# EAGLE library part AM3358_BZCZ_324 (library AM3358BZCZ)
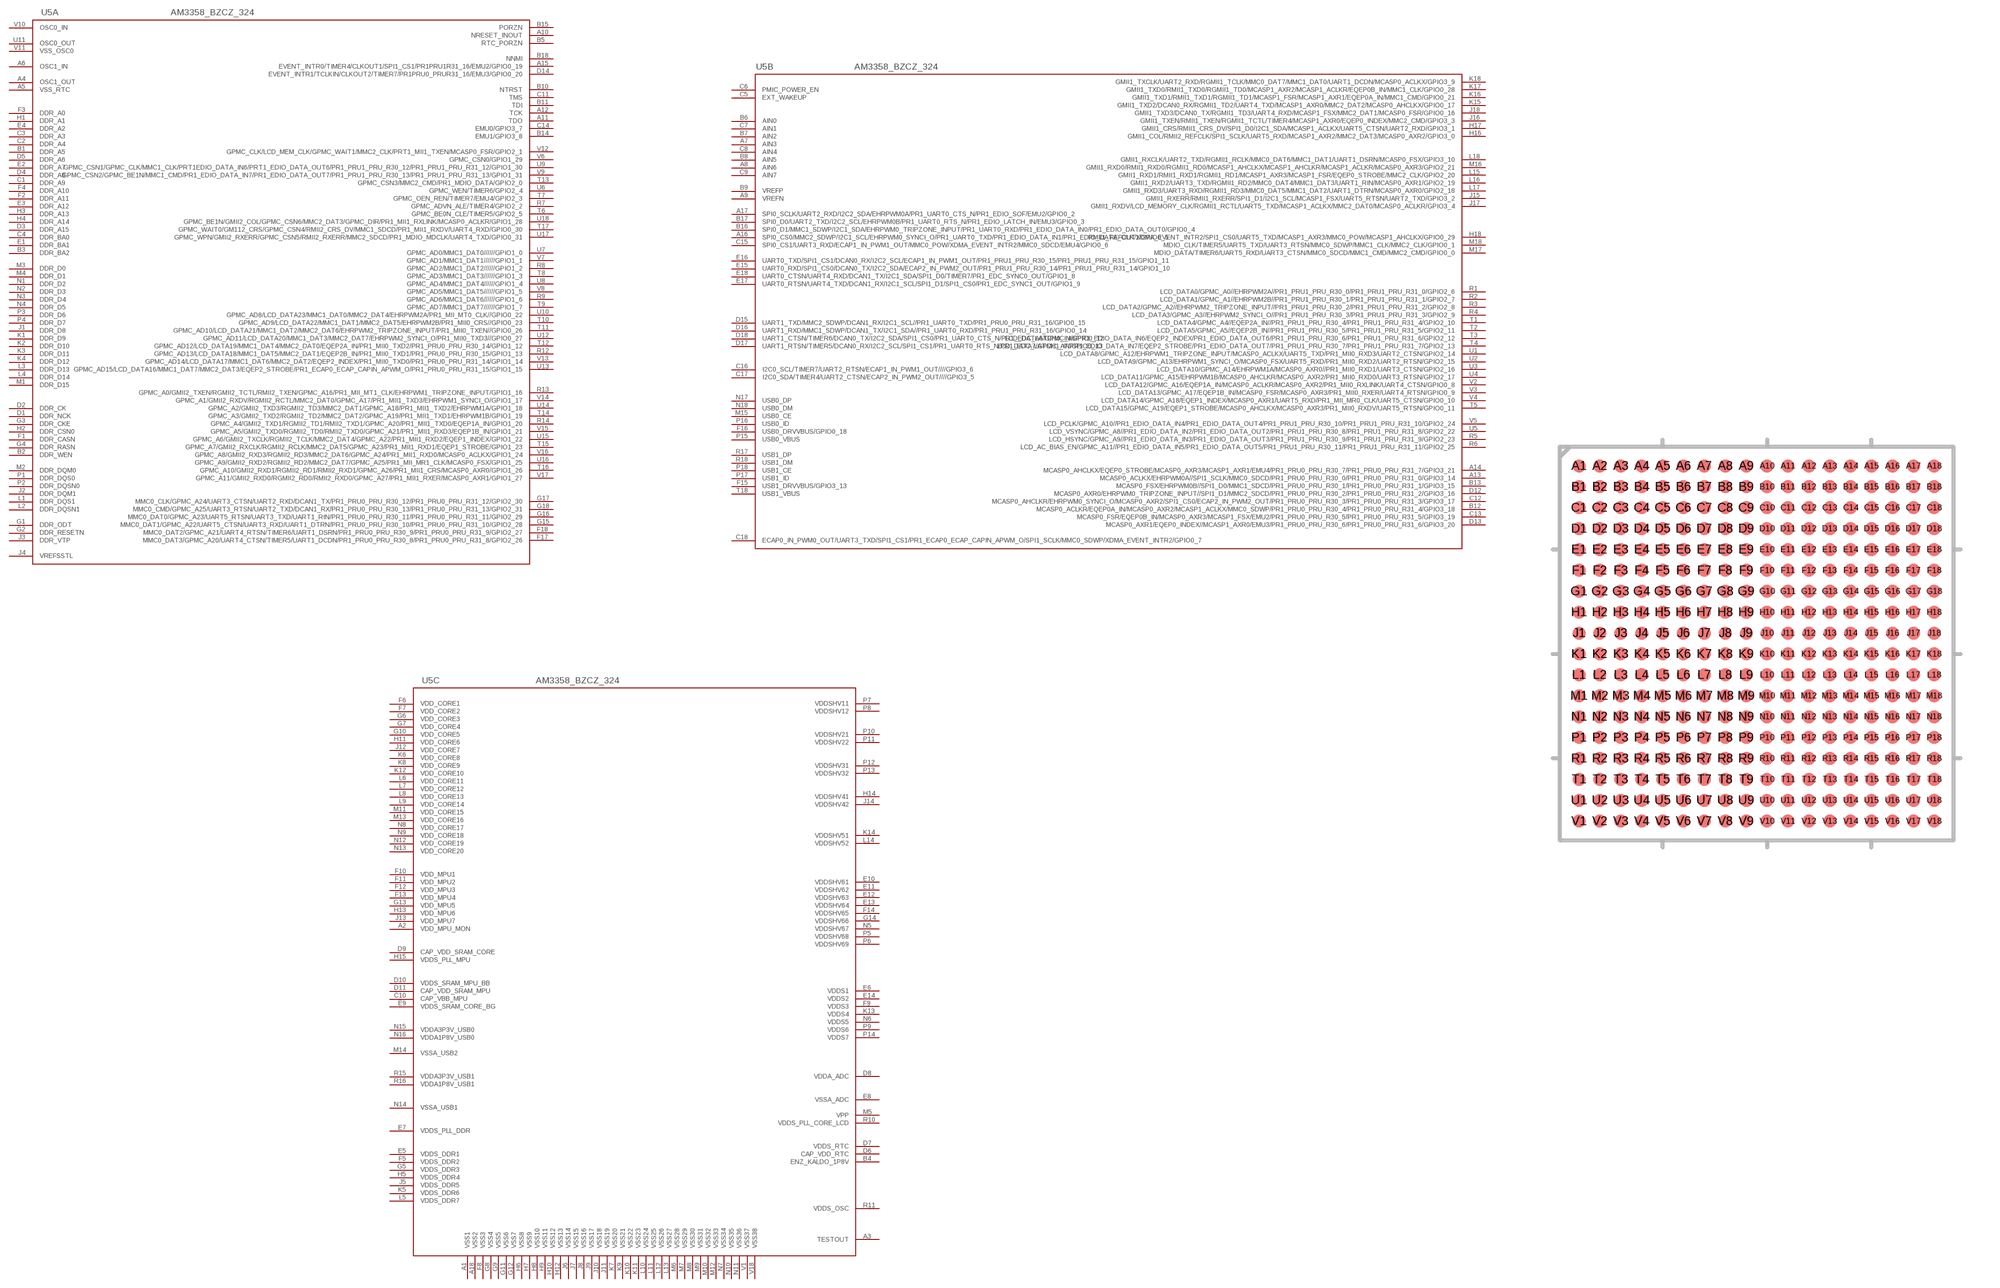
[diagram p0: symbol with the pads of BZCZ324; footprint BZCZ324]

Designator prefix -; gates G$1=AM3358BZCZ100A G$2=AM3358BZCZ100B G$3=AM3358BZ100C

## AM3358_BZCZ_324  [BZCZ324]
A1  G$3:VSS1
A2  G$3:VDD_MPU_MON
A3  G$3:TESTOUT
A4  G$1:OSC1_OUT  pwr
A5  G$1:VSS_RTC  pwr
A6  G$1:OSC1_IN  pwr
A7  G$2:AIN3
A8  G$2:AIN6
A9  G$2:VREFN
A10  G$1:NRESET_INOUT  pwr
A11  G$1:TDO  pwr
A12  G$1:TCK  pwr
A13  G$2:MCASP0_ACLKX/EHRPWM0A//SPI1_SCLK/MMC0_SDCD/PR1_PRU0_PRU_R30_0/PR1_PRU0_PRU_R31_0/GPIO3_14
A14  G$2:MCASP0_AHCLKX/EQEP0_STROBE/MCASP0_AXR3/MCASP1_AXR1/EMU4/PR1_PRU0_PRU_R30_7/PR1_PRU0_PRU_R31_7/GPIO3_21
A15  G$1:EVENT_INTR0/TIMER4/CLKOUT1/SPI1_CS1/PR1PRU1R31_16/EMU2/GPIO0_19  pwr
A16  G$2:SPI0_CS0/MMC2_SDWP/I2C1_SCL/EHRPWM0_SYNCI_O/PR1_UART0_TXD/PR1_EDIO_DATA_IN1/PR1_EDIO_DATA_OUT1/GPIO0_5
A17  G$2:SPI0_SCLK/UART2_RXD/I2C2_SDA/EHRPWM0A/PR1_UART0_CTS_N/PR1_EDIO_SOF/EMU2/GPIO0_2
A18  G$3:VSS2
B1  G$1:DDR_A5  pwr
B2  G$1:DDR_WEN  pwr
B3  G$1:DDR_BA2  pwr
B4  G$3:ENZ_KALDO_1P8V
B5  G$1:RTC_PORZN  pwr
B6  G$2:AIN0
B7  G$2:AIN2
B8  G$2:AIN5
B9  G$2:VREFP
B10  G$1:NTRST  pwr
B11  G$1:TDI  pwr
B12  G$2:MCASP0_ACLKR/EQEP0A_IN/MCASP0_AXR2/MCASP1_ACLKX/MMC0_SDWP/PR1_PRU0_PRU_R30_4/PR1_PRU0_PRU_R31_4/GPIO3_18
B13  G$2:MCASP0_FSX/EHRPWM0B//SPI1_D0/MMC1_SDCD/PR1_PRU0_PRU_R30_1/PR1_PRU0_PRU_R31_1/GPIO3_15
B14  G$1:EMU1/GPIO3_8  pwr
B15  G$1:PORZN  pwr
B16  G$2:SPI0_D1/MMC1_SDWP/I2C1_SDA/EHRPWM0_TRIPZONE_INPUT/PR1_UART0_RXD/PR1_EDIO_DATA_IN0/PR1_EDIO_DATA_OUT0/GPIO0_4
B17  G$2:SPI0_D0/UART2_TXD/I2C2_SCL/EHRPWM0B/PR1_UART0_RTS_N/PR1_EDIO_LATCH_IN/EMU3/GPIO0_3
B18  G$1:NNMI  pwr
C1  G$1:DDR_A9  pwr
C2  G$1:DDR_A4  pwr
C3  G$1:DDR_A3  pwr
C4  G$1:DDR_BA0  pwr
C5  G$2:EXT_WAKEUP
C6  G$2:PMIC_POWER_EN
C7  G$2:AIN1
C8  G$2:AIN4
C9  G$2:AIN7
C10  G$3:CAP_VBB_MPU
C11  G$1:TMS  pwr
C12  G$2:MCASP0_AHCLKR/EHRPWM0_SYNCI_O/MCASP0_AXR2/SPI1_CS0/ECAP2_IN_PWM2_OUT/PR1_PRU0_PRU_R30_3/PR1_PRU0_PRU_R31_3/GPIO3_17
C13  G$2:MCASP0_FSR/EQEP0B_IN/MCASP0_AXR3/MCASP1_FSX/EMU2/PR1_PRU0_PRU_R30_5/PR1_PRU0_PRU_R31_5/GPIO3_19
C14  G$1:EMU0/GPIO3_7  pwr
C15  G$2:SPI0_CS1/UART3_RXD/ECAP1_IN_PWM1_OUT/MMC0_POW/XDMA_EVENT_INTR2/MMC0_SDCD/EMU4/GPIO0_6
C16  G$2:I2C0_SCL/TIMER7/UART2_RTSN/ECAP1_IN_PWM1_OUT////GPIO3_6
C17  G$2:I2C0_SDA/TIMER4/UART2_CTSN/ECAP2_IN_PWM2_OUT////GPIO3_5
C18  G$2:ECAP0_IN_PWM0_OUT/UART3_TXD/SPI1_CS1/PR1_ECAP0_ECAP_CAPIN_APWM_O/SPI1_SCLK/MMC0_SDWP/XDMA_EVENT_INTR2/GPIO0_7
D1  G$1:DDR_NCK  pwr
D2  G$1:DDR_CK  pwr
D3  G$1:DDR_A15  pwr
D4  G$1:DDR_A8  pwr
D5  G$1:DDR_A6  pwr
D6  G$3:CAP_VDD_RTC
D7  G$3:VDDS_RTC
D8  G$3:VDDA_ADC
D9  G$3:CAP_VDD_SRAM_CORE
D10  G$3:VDDS_SRAM_MPU_BB
D11  G$3:CAP_VDD_SRAM_MPU
D12  G$2:MCASP0_AXR0/EHRPWM0_TRIPZONE_INPUT//SPI1_D1/MMC2_SDCD/PR1_PRU0_PRU_R30_2/PR1_PRU0_PRU_R31_2/GPIO3_16
D13  G$2:MCASP0_AXR1/EQEP0_INDEX//MCASP1_AXR0/EMU3/PR1_PRU0_PRU_R30_6/PR1_PRU0_PRU_R31_6/GPIO3_20
D14  G$1:EVENT_INTR1/TCLKIN/CLKOUT2/TIMER7/PR1PRU0_PRUR31_16/EMU3/GPIO0_20  pwr
D15  G$2:UART1_TXD/MMC2_SDWP/DCAN1_RX/I2C1_SCL//PR1_UART0_TXD/PR1_PRU0_PRU_R31_16/GPIO0_15
D16  G$2:UART1_RXD/MMC1_SDWP/DCAN1_TX/I2C1_SDA//PR1_UART0_RXD/PR1_PRU1_PRU_R31_16/GPIO0_14
D17  G$2:UART1_RTSN/TIMER5/DCAN0_RX/I2C2_SCL/SPI1_CS1/PR1_UART0_RTS_N/PR1_EDC_LATCH1_IN/GPIO0_13
D18  G$2:UART1_CTSN/TIMER6/DCAN0_TX/I2C2_SDA/SPI1_CS0/PR1_UART0_CTS_N/PR1_EDC_LATCH0_IN/GPIO0_12
E1  G$1:DDR_BA1  pwr
E2  G$1:DDR_A7  pwr
E3  G$1:DDR_A12  pwr
E4  G$1:DDR_A2  pwr
E5  G$3:VDDS_DDR1
E6  G$3:VDDS1
E7  G$3:VDDS_PLL_DDR
E8  G$3:VSSA_ADC
E9  G$3:VDDS_SRAM_CORE_BG
E10  G$3:VDDSHV61
E11  G$3:VDDSHV62
E12  G$3:VDDSHV63
E13  G$3:VDDSHV64
E14  G$3:VDDS2
E15  G$2:UART0_RXD/SPI1_CS0/DCAN0_TX/I2C2_SDA/ECAP2_IN_PWM2_OUT/PR1_PRU1_PRU_R30_14/PR1_PRU1_PRU_R31_14/GPIO1_10
E16  G$2:UART0_TXD/SPI1_CS1/DCAN0_RX/I2C2_SCL/ECAP1_IN_PWM1_OUT/PR1_PRU1_PRU_R30_15/PR1_PRU1_PRU_R31_15/GPIO1_11
E17  G$2:UART0_RTSN/UART4_TXD/DCAN1_RX/I2C1_SCL/SPI1_D1/SPI1_CS0/PR1_EDC_SYNC1_OUT/GPIO1_9
E18  G$2:UART0_CTSN/UART4_RXD/DCAN1_TX/I2C1_SDA/SPI1_D0/TIMER7/PR1_EDC_SYNC0_OUT/GPIO1_8
F1  G$1:DDR_CASN  pwr
F2  G$1:DDR_A11  pwr
F3  G$1:DDR_A0  pwr
F4  G$1:DDR_A10  pwr
F5  G$3:VDDS_DDR2
F6  G$3:VDD_CORE1
F7  G$3:VDD_CORE2
F8  G$3:VSS3
F9  G$3:VDDS3
F10  G$3:VDD_MPU1
F11  G$3:VDD_MPU2
F12  G$3:VDD_MPU3
F13  G$3:VDD_MPU4
F14  G$3:VDDSHV65
F15  G$2:USB1_DRVVBUS/GPIO3_13
F16  G$2:USB0_DRVVBUS/GPIO0_18
F17  G$1:MMC0_DAT3/GPMC_A20/UART4_CTSN/TIMER5/UART1_DCDN/PR1_PRU0_PRU_R30_8/PR1_PRU0_PRU_R31_8/GPIO2_26  pwr
F18  G$1:MMC0_DAT2/GPMC_A21/UART4_RTSN/TIMER6/UART1_DSRN/PR1_PRU0_PRU_R30_9/PR1_PRU0_PRU_R31_9/GPIO2_27  pwr
G1  G$1:DDR_ODT  pwr
G2  G$1:DDR_RESETN  pwr
G3  G$1:DDR_CKE  pwr
G4  G$1:DDR_RASN  pwr
G5  G$3:VDDS_DDR3
G6  G$3:VDD_CORE3
G7  G$3:VDD_CORE4
G8  G$3:VSS4
G9  G$3:VSS5
G10  G$3:VDD_CORE5
G11  G$3:VSS6
G12  G$3:VSS7
G13  G$3:VDD_MPU5
G14  G$3:VDDSHV66
G15  G$1:MMC0_DAT1/GPMC_A22/UART5_CTSN/UART3_RXD/UART1_DTRN/PR1_PRU0_PRU_R30_10/PR1_PRU0_PRU_R31_10/GPIO2_28  pwr
G16  G$1:MMC0_DAT0/GPMC_A23/UART5_RTSN/UART3_TXD/UART1_RIN/PR1_PRU0_PRU_R30_11/PR1_PRU0_PRU_R31_11/GPIO2_29  pwr
G17  G$1:MMC0_CLK/GPMC_A24/UART3_CTSN/UART2_RXD/DCAN1_TX/PR1_PRU0_PRU_R30_12/PR1_PRU0_PRU_R31_12/GPIO2_30  pwr
G18  G$1:MMC0_CMD/GPMC_A25/UART3_RTSN/UART2_TXD/DCAN1_RX/PR1_PRU0_PRU_R30_13/PR1_PRU0_PRU_R31_13/GPIO2_31  pwr
H1  G$1:DDR_A1  pwr
H2  G$1:DDR_CSN0  pwr
H3  G$1:DDR_A13  pwr
H4  G$1:DDR_A14  pwr
H5  G$3:VDDS_DDR4
H6  G$3:VSS8
H7  G$3:VSS9
H8  G$3:VSS10
H9  G$3:VSS11
H10  G$3:VSS12
H11  G$3:VDD_CORE6
H12  G$3:VSS13
H13  G$3:VDD_MPU6
H14  G$3:VDDSHV41
H15  G$3:VDDS_PLL_MPU
H16  G$2:GMII1_COL/RMII2_REFCLK/SPI1_SCLK/UART5_RXD/MCASP1_AXR2/MMC2_DAT3/MCASP0_AXR2/GPIO3_0
H17  G$2:GMII1_CRS/RMII1_CRS_DV/SPI1_D0/I2C1_SDA/MCASP1_ACLKX/UART5_CTSN/UART2_RXD/GPIO3_1
H18  G$2:RMII1_REFCLK/XDMA_EVENT_INTR2/SPI1_CS0/UART5_TXD/MCASP1_AXR3/MMC0_POW/MCASP1_AHCLKX/GPIO0_29
J1  G$1:DDR_D8  pwr
J2  G$1:DDR_DQM1  pwr
J3  G$1:DDR_VTP  pwr
J4  G$1:VREFSSTL  pwr
J5  G$3:VDDS_DDR5
J6  G$3:VSS14
J7  G$3:VSS15
J8  G$3:VSS16
J9  G$3:VSS17
J10  G$3:VSS18
J11  G$3:VSS19
J12  G$3:VDD_CORE7
J13  G$3:VDD_MPU7
J14  G$3:VDDSHV42
J15  G$2:GMII1_RXERR/RMII1_RXERR/SPI1_D1/I2C1_SCL/MCASP1_FSX/UART5_RTSN/UART2_TXD/GPIO3_2
J16  G$2:GMII1_TXEN/RMII1_TXEN/RGMII1_TCTL/TIMER4/MCASP1_AXR0/EQEP0_INDEX/MMC2_CMD/GPIO3_3
J17  G$2:GMII1_RXDV/LCD_MEMORY_CLK/RGMII1_RCTL/UART5_TXD/MCASP1_ACLKX/MMC2_DAT0/MCASP0_ACLKR/GPIO3_4
J18  G$2:GMII1_TXD3/DCAN0_TX/RGMII1_TD3/UART4_RXD/MCASP1_FSX/MMC2_DAT1/MCASP0_FSR/GPIO0_16
K1  G$1:DDR_D9  pwr
K2  G$1:DDR_D10  pwr
K3  G$1:DDR_D11  pwr
K4  G$1:DDR_D12  pwr
K5  G$3:VDDS_DDR6
K6  G$3:VDD_CORE8
K7  G$3:VSS20
K8  G$3:VDD_CORE9
K9  G$3:VSS21
K10  G$3:VSS22
K11  G$3:VSS23
K12  G$3:VDD_CORE10
K13  G$3:VDDS4
K14  G$3:VDDSHV51
K15  G$2:GMII1_TXD2/DCAN0_RX/RGMII1_TD2/UART4_TXD/MCASP1_AXR0/MMC2_DAT2/MCASP0_AHCLKX/GPIO0_17
K16  G$2:GMII1_TXD1/RMII1_TXD1/RGMII1_TD1/MCASP1_FSR/MCASP1_AXR1/EQEP0A_IN/MMC1_CMD/GPIO0_21
K17  G$2:GMII1_TXD0/RMII1_TXD0/RGMII1_TD0/MCASP1_AXR2/MCASP1_ACLKR/EQEP0B_IN/MMC1_CLK/GPIO0_28
K18  G$2:GMII1_TXCLK/UART2_RXD/RGMII1_TCLK/MMC0_DAT7/MMC1_DAT0/UART1_DCDN/MCASP0_ACLKX/GPIO3_9
L1  G$1:DDR_DQS1  pwr
L2  G$1:DDR_DQSN1  pwr
L3  G$1:DDR_D13  pwr
L4  G$1:DDR_D14  pwr
L5  G$3:VDDS_DDR7
L6  G$3:VDD_CORE11
L7  G$3:VDD_CORE12
L8  G$3:VDD_CORE13
L9  G$3:VDD_CORE14
L10  G$3:VSS24
L11  G$3:VSS25
L12  G$3:VSS26
L13  G$3:VSS27
L14  G$3:VDDSHV52
L15  G$2:GMII1_RXD1/RMII1_RXD1/RGMII1_RD1/MCASP1_AXR3/MCASP1_FSR/EQEP0_STROBE/MMC2_CLK/GPIO2_20
L16  G$2:GMII1_RXD2/UART3_TXD/RGMII1_RD2/MMC0_DAT4/MMC1_DAT3/UART1_RIN/MCASP0_AXR1/GPIO2_19
L17  G$2:GMII1_RXD3/UART3_RXD/RGMII1_RD3/MMC0_DAT5/MMC1_DAT2/UART1_DTRN/MCASP0_AXR0/GPIO2_18
L18  G$2:GMII1_RXCLK/UART2_TXD/RGMII1_RCLK/MMC0_DAT6/MMC1_DAT1/UART1_DSRN/MCASP0_FSX/GPIO3_10
M1  G$1:DDR_D15  pwr
M2  G$1:DDR_DQM0  pwr
M3  G$1:DDR_D0  pwr
M4  G$1:DDR_D1  pwr
M5  G$3:VPP
M6  G$3:VSS28
M7  G$3:VSS29
M8  G$3:VSS30
M9  G$3:VSS31
M10  G$3:VSS32
M11  G$3:VDD_CORE15
M12  G$3:VSS33
M13  G$3:VDD_CORE16
M14  G$3:VSSA_USB2
M15  G$2:USB0_CE
M16  G$2:GMII1_RXD0/RMII1_RXD0/RGMII1_RD0/MCASP1_AHCLKX/MCASP1_AHCLKR/MCASP1_ACLKR/MCASP0_AXR3/GPIO2_21
M17  G$2:MDIO_DATA/TIMER6/UART5_RXD/UART3_CTSN/MMC0_SDCD/MMC1_CMD/MMC2_CMD/GPIO0_0
M18  G$2:MDIO_CLK/TIMER5/UART5_TXD/UART3_RTSN/MMC0_SDWP/MMC1_CLK/MMC2_CLK/GPIO0_1
N1  G$1:DDR_D2  pwr
N2  G$1:DDR_D3  pwr
N3  G$1:DDR_D4  pwr
N4  G$1:DDR_D5  pwr
N5  G$3:VDDSHV67
N6  G$3:VDDS5
N7  G$3:VSS34
N8  G$3:VDD_CORE17
N9  G$3:VDD_CORE18
N10  G$3:VSS35
N11  G$3:VSS36
N12  G$3:VDD_CORE19
N13  G$3:VDD_CORE20
N14  G$3:VSSA_USB1
N15  G$3:VDDA3P3V_USB0
N16  G$3:VDDA1P8V_USB0
N17  G$2:USB0_DP
N18  G$2:USB0_DM
P1  G$1:DDR_DQS0  pwr
P2  G$1:DDR_DQSN0  pwr
P3  G$1:DDR_D6  pwr
P4  G$1:DDR_D7  pwr
P5  G$3:VDDSHV68
P6  G$3:VDDSHV69
P7  G$3:VDDSHV11
P8  G$3:VDDSHV12
P9  G$3:VDDS6
P10  G$3:VDDSHV21
P11  G$3:VDDSHV22
P12  G$3:VDDSHV31
P13  G$3:VDDSHV32
P14  G$3:VDDS7
P15  G$2:USB0_VBUS
P16  G$2:USB0_ID
P17  G$2:USB1_ID
P18  G$2:USB1_CE
R1  G$2:LCD_DATA0/GPMC_A0//EHRPWM2A//PR1_PRU1_PRU_R30_0/PR1_PRU1_PRU_R31_0/GPIO2_6
R2  G$2:LCD_DATA1/GPMC_A1//EHRPWM2B//PR1_PRU1_PRU_R30_1/PR1_PRU1_PRU_R31_1/GPIO2_7
R3  G$2:LCD_DATA2/GPMC_A2//EHRPWM2_TRIPZONE_INPUT//PR1_PRU1_PRU_R30_2/PR1_PRU1_PRU_R31_2/GPIO2_8
R4  G$2:LCD_DATA3/GPMC_A3//EHRPWM2_SYNCI_O//PR1_PRU1_PRU_R30_3/PR1_PRU1_PRU_R31_3/GPIO2_9
R5  G$2:LCD_HSYNC/GPMC_A9//PR1_EDIO_DATA_IN3/PR1_EDIO_DATA_OUT3/PR1_PRU1_PRU_R30_9/PR1_PRU1_PRU_R31_9/GPIO2_23
R6  G$2:LCD_AC_BIAS_EN/GPMC_A11//PR1_EDIO_DATA_IN5/PR1_EDIO_DATA_OUT5/PR1_PRU1_PRU_R30_11/PR1_PRU1_PRU_R31_11/GPIO2_25
R7  G$1:GPMC_ADVN_ALE/TIMER4/GPIO2_2  pwr
R8  G$1:GPMC_AD2/MMC1_DAT2//////GPIO1_2  pwr
R9  G$1:GPMC_AD6/MMC1_DAT6//////GPIO1_6  pwr
R10  G$3:VDDS_PLL_CORE_LCD
R11  G$3:VDDS_OSC
R12  G$1:GPMC_AD13/LCD_DATA18/MMC1_DAT5/MMC2_DAT1/EQEP2B_IN/PR1_MII0_TXD1/PR1_PRU0_PRU_R30_15/GPIO1_13  pwr
R13  G$1:GPMC_A0/GMII2_TXEN/RGMII2_TCTL/RMII2_TXEN/GPMC_A16/PR1_MII_MT1_CLK/EHRPWM1_TRIPZONE_INPUT/GPIO1_16  pwr
R14  G$1:GPMC_A4/GMII2_TXD1/RGMII2_TD1/RMII2_TXD1/GPMC_A20/PR1_MII1_TXD0/EQEP1A_IN/GPIO1_20  pwr
R15  G$3:VDDA3P3V_USB1
R16  G$3:VDDA1P8V_USB1
R17  G$2:USB1_DP
R18  G$2:USB1_DM
T1  G$2:LCD_DATA4/GPMC_A4//EQEP2A_IN//PR1_PRU1_PRU_R30_4/PR1_PRU1_PRU_R31_4/GPIO2_10
T2  G$2:LCD_DATA5/GPMC_A5//EQEP2B_IN//PR1_PRU1_PRU_R30_5/PR1_PRU1_PRU_R31_5/GPIO2_11
T3  G$2:LCD_DATA6/GPMC_A6/PR1_EDIO_DATA_IN6/EQEP2_INDEX/PR1_EDIO_DATA_OUT6/PR1_PRU1_PRU_R30_6/PR1_PRU1_PRU_R31_6/GPIO2_12
T4  G$2:LCD_DATA7/GPMC_A7/PR1_EDIO_DATA_IN7/EQEP2_STROBE/PR1_EDIO_DATA_OUT7/PR1_PRU1_PRU_R30_7/PR1_PRU1_PRU_R31_7/GPIO2_13
T5  G$2:LCD_DATA15/GPMC_A19/EQEP1_STROBE/MCASP0_AHCLKX/MCASP0_AXR3/PR1_MII0_RXDV/UART5_RTSN/GPIO0_11
T6  G$1:GPMC_BE0N_CLE/TIMER5/GPIO2_5  pwr
T7  G$1:GPMC_OEN_REN/TIMER7/EMU4/GPIO2_3  pwr
T8  G$1:GPMC_AD3/MMC1_DAT3//////GPIO1_3  pwr
T9  G$1:GPMC_AD7/MMC1_DAT7//////GPIO1_7  pwr
T10  G$1:GPMC_AD9/LCD_DATA22/MMC1_DAT1/MMC2_DAT5/EHRPWM2B/PR1_MII0_CRS//GPIO0_23  pwr
T11  G$1:GPMC_AD10/LCD_DATA21/MMC1_DAT2/MMC2_DAT6/EHRPWM2_TRIPZONE_INPUT/PR1_MII0_TXEN//GPIO0_26  pwr
T12  G$1:GPMC_AD12/LCD_DATA19/MMC1_DAT4/MMC2_DAT0/EQEP2A_IN/PR1_MII0_TXD2/PR1_PRU0_PRU_R30_14/GPIO1_12  pwr
T13  G$1:GPMC_CSN3/MMC2_CMD/PR1_MDIO_DATA/GPIO2_0  pwr
T14  G$1:GPMC_A3/GMII2_TXD2/RGMII2_TD2/MMC2_DAT2/GPMC_A19/PR1_MII1_TXD1/EHRPWM1B/GPIO1_19  pwr
T15  G$1:GPMC_A7/GMII2_RXCLK/RGMII2_RCLK/MMC2_DAT5/GPMC_A23/PR1_MII1_RXD1/EQEP1_STROBE/GPIO1_23  pwr
T16  G$1:GPMC_A10/GMII2_RXD1/RGMII2_RD1/RMII2_RXD1/GPMC_A26/PR1_MII1_CRS/MCASP0_AXR0/GPIO1_26  pwr
T17  G$1:GPMC_WAIT0/GM112_CRS/GPMC_CSN4/RMII2_CRS_DV/MMC1_SDCD/PR1_MII1_RXDV/UART4_RXD/GPIO0_30  pwr
T18  G$2:USB1_VBUS
U1  G$2:LCD_DATA8/GPMC_A12/EHRPWM1_TRIPZONE_INPUT/MCASP0_ACLKX/UART5_TXD/PR1_MII0_RXD3/UART2_CTSN/GPIO2_14
U2  G$2:LCD_DATA9/GPMC_A13/EHRPWM1_SYNCI_O/MCASP0_FSX/UART5_RXD/PR1_MII0_RXD2/UART2_RTSN/GPIO2_15
U3  G$2:LCD_DATA10/GPMC_A14/EHRPWM1A/MCASP0_AXR0//PR1_MII0_RXD1/UART3_CTSN/GPIO2_16
U4  G$2:LCD_DATA11/GPMC_A15/EHRPWM1B/MCASP0_AHCLKR/MCASP0_AXR2/PR1_MII0_RXD0/UART3_RTSN/GPIO2_17
U5  G$2:LCD_VSYNC/GPMC_A8//PR1_EDIO_DATA_IN2/PR1_EDIO_DATA_OUT2/PR1_PRU1_PRU_R30_8/PR1_PRU1_PRU_R31_8/GPIO2_22
U6  G$1:GPMC_WEN/TIMER6/GPIO2_4  pwr
U7  G$1:GPMC_AD0/MMC1_DAT0//////GPIO1_0  pwr
U8  G$1:GPMC_AD4/MMC1_DAT4//////GPIO1_4  pwr
U9  G$1:GPMC_CSN1/GPMC_CLK/MMC1_CLK/PRT1EDIO_DATA_IN6/PRT1_EDIO_DATA_OUT6/PR1_PRU1_PRU_R30_12/PR1_PRU1_PRU_R31_12/GPIO1_30  pwr
U10  G$1:GPMC_AD8/LCD_DATA23/MMC1_DAT0/MMC2_DAT4/EHRPWM2A/PR1_MII_MT0_CLK//GPIO0_22  pwr
U11  G$1:OSC0_OUT  pwr
U12  G$1:GPMC_AD11/LCD_DATA20/MMC1_DAT3/MMC2_DAT7/EHRPWM2_SYNCI_O/PR1_MII0_TXD3//GPIO0_27  pwr
U13  G$1:GPMC_AD15/LCD_DATA16/MMC1_DAT7/MMC2_DAT3/EQEP2_STROBE/PR1_ECAP0_ECAP_CAPIN_APWM_O/PR1_PRU0_PRU_R31_15/GPIO1_15  pwr
U14  G$1:GPMC_A2/GMII2_TXD3/RGMII2_TD3/MMC2_DAT1/GPMC_A18/PR1_MII1_TXD2/EHRPWM1A/GPIO1_18  pwr
U15  G$1:GPMC_A6/GMII2_TXCLK/RGMII2_TCLK/MMC2_DAT4/GPMC_A22/PR1_MII1_RXD2/EQEP1_INDEX/GPIO1_22  pwr
U16  G$1:GPMC_A9/GMII2_RXD2/RGMII2_RD2/MMC2_DAT7/GPMC_A25/PR1_MII_MR1_CLK/MCASP0_FSX/GPIO1_25  pwr
U17  G$1:GPMC_WPN/GMII2_RXERR/GPMC_CSN5/RMII2_RXERR/MMC2_SDCD/PR1_MDIO_MDCLK/UART4_TXD/GPIO0_31  pwr
U18  G$1:GPMC_BE1N/GMII2_COL/GPMC_CSN6/MMC2_DAT3/GPMC_DIR/PR1_MII1_RXLINK/MCASP0_ACLKR/GPIO1_28  pwr
V1  G$3:VSS37
V2  G$2:LCD_DATA12/GPMC_A16/EQEP1A_IN/MCASP0_ACLKR/MCASP0_AXR2/PR1_MII0_RXLINK/UART4_CTSN/GPIO0_8
V3  G$2:LCD_DATA13/GPMC_A17/EQEP1B_IN/MCASP0_FSR/MCASP0_AXR3/PR1_MII0_RXER/UART4_RTSN/GPIO0_9
V4  G$2:LCD_DATA14/GPMC_A18/EQEP1_INDEX/MCASP0_AXR1/UART5_RXD/PR1_MII_MR0_CLK/UART5_CTSN/GPIO0_10
V5  G$2:LCD_PCLK/GPMC_A10//PR1_EDIO_DATA_IN4/PR1_EDIO_DATA_OUT4/PR1_PRU1_PRU_R30_10/PR1_PRU1_PRU_R31_10/GPIO2_24
V6  G$1:GPMC_CSN0/GPIO1_29  pwr
V7  G$1:GPMC_AD1/MMC1_DAT1//////GPIO1_1  pwr
V8  G$1:GPMC_AD5/MMC1_DAT5//////GPIO1_5  pwr
V9  G$1:GPMC_CSN2/GPMC_BE1N/MMC1_CMD/PR1_EDIO_DATA_IN7/PR1_EDIO_DATA_OUT7/PR1_PRU1_PRU_R30_13/PR1_PRU1_PRU_R31_13/GPIO1_31  pwr
V10  G$1:OSC0_IN  pwr
V11  G$1:VSS_OSC0  pwr
V12  G$1:GPMC_CLK/LCD_MEM_CLK/GPMC_WAIT1/MMC2_CLK/PRT1_MII1_TXEN/MCASP0_FSR/GPIO2_1  pwr
V13  G$1:GPMC_AD14/LCD_DATA17/MMC1_DAT6/MMC2_DAT2/EQEP2_INDEX/PR1_MII0_TXD0/PR1_PRU0_PRU_R31_14/GPIO1_14  pwr
V14  G$1:GPMC_A1/GMII2_RXDV/RGMII2_RCTL/MMC2_DAT0/GPMC_A17/PR1_MII1_TXD3/EHRPWM1_SYNCI_O/GPIO1_17  pwr
V15  G$1:GPMC_A5/GMII2_TXD0/RGMII2_TD0/RMII2_TXD0/GPMC_A21/PR1_MII1_RXD3/EQEP1B_IN/GPIO1_21  pwr
V16  G$1:GPMC_A8/GMII2_RXD3/RGMII2_RD3/MMC2_DAT6/GPMC_A24/PR1_MII1_RXD0/MCASP0_ACLKX/GPIO1_24  pwr
V17  G$1:GPMC_A11/GMII2_RXD0/RGMII2_RD0/RMII2_RXD0/GPMC_A27/PR1_MII1_RXER/MCASP0_AXR1/GPIO1_27  pwr
V18  G$3:VSS38

## Footprint BZCZ324 (pad centres in mm)
smd 0.508 x 0.508: A1 -16.96,6.8; A2 -16.16,6.8; A3 -15.36,6.8; A4 -14.56,6.8; A5 -13.76,6.8; A6 -12.96,6.8; A7 -12.16,6.8; A8 -11.36,6.8; A9 -10.56,6.8; A10 -9.76,6.8; A11 -8.96,6.8; A12 -8.16,6.8; A13 -7.36,6.8; A14 -6.56,6.8; A15 -5.76,6.8; A16 -4.96,6.8; A17 -4.16,6.8; A18 -3.36,6.8; B1 -16.96,6; B2 -16.16,6; B3 -15.36,6; B4 -14.56,6; B5 -13.76,6; B6 -12.96,6; B7 -12.16,6; B8 -11.36,6; B9 -10.56,6; B10 -9.76,6; B11 -8.96,6; B12 -8.16,6; B13 -7.36,6; B14 -6.56,6; B15 -5.76,6; B16 -4.96,6; B17 -4.16,6; B18 -3.36,6; C1 -16.96,5.2; C2 -16.16,5.2; C3 -15.36,5.2; C4 -14.56,5.2; C5 -13.76,5.2; C6 -12.96,5.2; C7 -12.16,5.2; C8 -11.36,5.2; C9 -10.56,5.2; C10 -9.76,5.2; C11 -8.96,5.2; C12 -8.16,5.2; C13 -7.36,5.2; C14 -6.56,5.2; C15 -5.76,5.2; C16 -4.96,5.2; C17 -4.16,5.2; C18 -3.36,5.2; D1 -16.96,4.4; D2 -16.16,4.4; D3 -15.36,4.4; D4 -14.56,4.4; D5 -13.76,4.4; D6 -12.96,4.4; D7 -12.16,4.4; D8 -11.36,4.4; D9 -10.56,4.4; D10 -9.76,4.4; D11 -8.96,4.4; D12 -8.16,4.4; D13 -7.36,4.4; D14 -6.56,4.4; D15 -5.76,4.4; D16 -4.96,4.4; D17 -4.16,4.4; D18 -3.36,4.4; E1 -16.96,3.6; E2 -16.16,3.6; E3 -15.36,3.6; E4 -14.56,3.6; E5 -13.76,3.6; E6 -12.96,3.6; E7 -12.16,3.6; E8 -11.36,3.6; E9 -10.56,3.6; E10 -9.76,3.6; E11 -8.96,3.6; E12 -8.16,3.6; E13 -7.36,3.6; E14 -6.56,3.6; E15 -5.76,3.6; E16 -4.96,3.6; E17 -4.16,3.6; E18 -3.36,3.6; F1 -16.96,2.8; F2 -16.16,2.8; F3 -15.36,2.8; F4 -14.56,2.8; F5 -13.76,2.8; F6 -12.96,2.8; F7 -12.16,2.8; F8 -11.36,2.8; F9 -10.56,2.8; F10 -9.76,2.8; F11 -8.96,2.8; F12 -8.16,2.8; F13 -7.36,2.8; F14 -6.56,2.8; F15 -5.76,2.8; F16 -4.96,2.8; F17 -4.16,2.8; F18 -3.36,2.8; G1 -16.96,2; G2 -16.16,2; G3 -15.36,2; G4 -14.56,2; G5 -13.76,2; G6 -12.96,2; G7 -12.16,2; G8 -11.36,2; G9 -10.56,2; G10 -9.76,2; G11 -8.96,2; G12 -8.16,2; G13 -7.36,2; G14 -6.56,2; G15 -5.76,2; G16 -4.96,2; G17 -4.16,2; G18 -3.36,2; H1 -16.96,1.2; H2 -16.16,1.2; H3 -15.36,1.2; H4 -14.56,1.2; H5 -13.76,1.2; H6 -12.96,1.2; H7 -12.16,1.2; H8 -11.36,1.2; H9 -10.56,1.2; H10 -9.76,1.2; H11 -8.96,1.2; H12 -8.16,1.2; H13 -7.36,1.2; H14 -6.56,1.2; H15 -5.76,1.2; H16 -4.96,1.2; H17 -4.16,1.2; H18 -3.36,1.2; J1 -16.96,0.4; J2 -16.16,0.4; J3 -15.36,0.4; J4 -14.56,0.4; J5 -13.76,0.4; J6 -12.96,0.4; J7 -12.16,0.4; J8 -11.36,0.4; J9 -10.56,0.4; J10 -9.76,0.4; J11 -8.96,0.4; J12 -8.16,0.4; J13 -7.36,0.4; J14 -6.56,0.4; J15 -5.76,0.4; J16 -4.96,0.4; J17 -4.16,0.4; J18 -3.36,0.4; K1 -16.96,-0.4; K2 -16.16,-0.4; K3 -15.36,-0.4; K4 -14.56,-0.4; K5 -13.76,-0.4; K6 -12.96,-0.4; K7 -12.16,-0.4; K8 -11.36,-0.4; K9 -10.56,-0.4; K10 -9.76,-0.4; K11 -8.96,-0.4; K12 -8.16,-0.4; K13 -7.36,-0.4; K14 -6.56,-0.4; K15 -5.76,-0.4; K16 -4.96,-0.4; K17 -4.16,-0.4; K18 -3.36,-0.4; L1 -16.96,-1.2; L2 -16.16,-1.2; L3 -15.36,-1.2; L4 -14.56,-1.2; L5 -13.76,-1.2; L6 -12.96,-1.2; L7 -12.16,-1.2; L8 -11.36,-1.2; L9 -10.56,-1.2; L10 -9.76,-1.2; L11 -8.96,-1.2; L12 -8.16,-1.2; L13 -7.36,-1.2; L14 -6.56,-1.2; L15 -5.76,-1.2; L16 -4.96,-1.2; L17 -4.16,-1.2; L18 -3.36,-1.2; M1 -16.96,-2; M2 -16.16,-2; M3 -15.36,-2; M4 -14.56,-2; M5 -13.76,-2; M6 -12.96,-2; M7 -12.16,-2; M8 -11.36,-2; M9 -10.56,-2; M10 -9.76,-2; M11 -8.96,-2; M12 -8.16,-2; M13 -7.36,-2; M14 -6.56,-2; M15 -5.76,-2; M16 -4.96,-2; M17 -4.16,-2; M18 -3.36,-2; N1 -16.96,-2.8; N2 -16.16,-2.8; N3 -15.36,-2.8; N4 -14.56,-2.8; N5 -13.76,-2.8; N6 -12.96,-2.8; N7 -12.16,-2.8; N8 -11.36,-2.8; N9 -10.56,-2.8; N10 -9.76,-2.8; N11 -8.96,-2.8; N12 -8.16,-2.8; N13 -7.36,-2.8; N14 -6.56,-2.8; N15 -5.76,-2.8; N16 -4.96,-2.8; N17 -4.16,-2.8; N18 -3.36,-2.8; P1 -16.96,-3.6; P2 -16.16,-3.6; P3 -15.36,-3.6; P4 -14.56,-3.6; P5 -13.76,-3.6; P6 -12.96,-3.6; P7 -12.16,-3.6; P8 -11.36,-3.6; P9 -10.56,-3.6; P10 -9.76,-3.6; P11 -8.96,-3.6; P12 -8.16,-3.6; P13 -7.36,-3.6; P14 -6.56,-3.6; P15 -5.76,-3.6; P16 -4.96,-3.6; P17 -4.16,-3.6; P18 -3.36,-3.6; R1 -16.96,-4.4; R2 -16.16,-4.4; R3 -15.36,-4.4; R4 -14.56,-4.4; R5 -13.76,-4.4; R6 -12.96,-4.4; R7 -12.16,-4.4; R8 -11.36,-4.4; R9 -10.56,-4.4; R10 -9.76,-4.4; R11 -8.96,-4.4; R12 -8.16,-4.4; R13 -7.36,-4.4; R14 -6.56,-4.4; R15 -5.76,-4.4; R16 -4.96,-4.4; R17 -4.16,-4.4; R18 -3.36,-4.4; T1 -16.96,-5.2; T2 -16.16,-5.2; T3 -15.36,-5.2; T4 -14.56,-5.2; T5 -13.76,-5.2; T6 -12.96,-5.2; T7 -12.16,-5.2; T8 -11.36,-5.2; T9 -10.56,-5.2; T10 -9.76,-5.2; T11 -8.96,-5.2; T12 -8.16,-5.2; T13 -7.36,-5.2; T14 -6.56,-5.2; T15 -5.76,-5.2; T16 -4.96,-5.2; T17 -4.16,-5.2; T18 -3.36,-5.2; U1 -16.96,-6; U2 -16.16,-6; U3 -15.36,-6; U4 -14.56,-6; U5 -13.76,-6; U6 -12.96,-6; U7 -12.16,-6; U8 -11.36,-6; U9 -10.56,-6; U10 -9.76,-6; U11 -8.96,-6; U12 -8.16,-6; U13 -7.36,-6; U14 -6.56,-6; U15 -5.76,-6; U16 -4.96,-6; U17 -4.16,-6; U18 -3.36,-6; V1 -16.96,-6.8; V2 -16.16,-6.8; V3 -15.36,-6.8; V4 -14.56,-6.8; V5 -13.76,-6.8; V6 -12.96,-6.8; V7 -12.16,-6.8; V8 -11.36,-6.8; V9 -10.56,-6.8; V10 -9.76,-6.8; V11 -8.96,-6.8; V12 -8.16,-6.8; V13 -7.36,-6.8; V14 -6.56,-6.8; V15 -5.76,-6.8; V16 -4.96,-6.8; V17 -4.16,-6.8; V18 -3.36,-6.8